# EAGLE library part CLP-105-02-X-D-BE-A (library samtec)
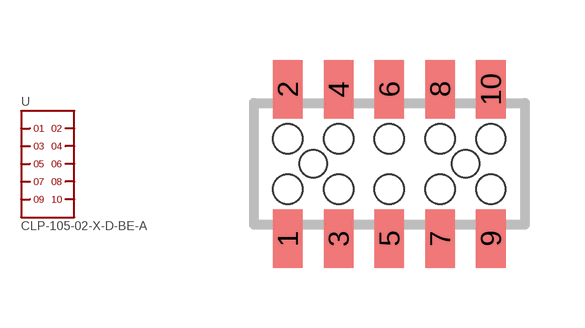
[diagram p25: symbol with the pads of CLP-105-02-X-D-BE-A; footprint CLP-105-02-X-D-BE-A]

Designator prefix -

## CLP-105-02-X-D-BE-A  [CLP-105-02-X-D-BE-A]
1  1
2  2
3  3
4  4
5  5
6  6
7  7
8  8
9  9
10  10

## Footprint CLP-105-02-X-D-BE-A (pad centres in mm)
Low Profile .050 inch x .050 inch Double Row ASM
smd 0.74 x 1.47: 1 -2.54,-1.87; 2 -2.54,1.87; 3 -1.27,-1.87; 4 -1.27,1.87; 5 0,-1.87; 6 0,1.87; 7 1.27,-1.87; 8 1.27,1.87; 9 2.54,-1.87; 10 2.54,1.87
hole 0.737 at -2.54,0.635
hole 0.737 at -2.54,-0.635
hole 0.737 at -1.27,-0.635
hole 0.737 at -1.27,0.635
hole 0.737 at 0,0.635
hole 0.737 at 0,-0.635
hole 0.737 at 1.27,-0.635
hole 0.737 at 1.27,0.635
hole 0.737 at 2.54,0.635
hole 0.737 at 2.54,-0.635
hole 0.686 at -1.905,0
hole 0.686 at 1.905,0